# EAGLE library part SD_PULPO (library SD_PULPO)
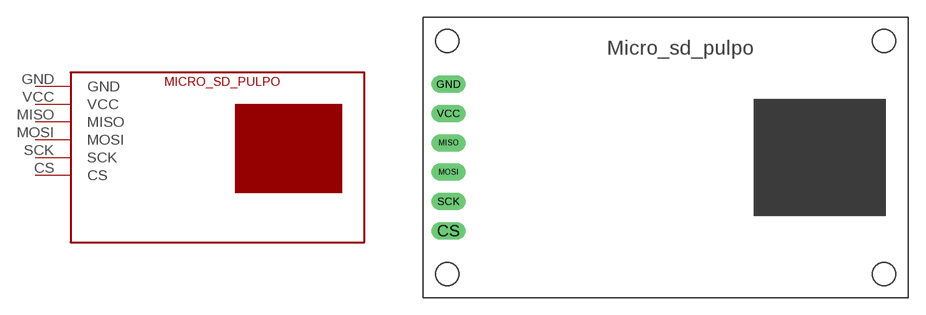
[diagram p0: symbol with the pads of SD_PULPO; footprint SD_PULPO]

Designator prefix -

## SD_PULPO  [SD_PULPO]
CS  CS
GND  GND
MISO  MISO
MOSI  MOSI
SCK  SCK
VCC  VCC

## Footprint SD_PULPO (pad centres in mm)
drill 1 pad 1.5 long: CS -18.8,-6.35; GND -18.8,6.35; MISO -18.8,1.27; MOSI -18.8,-1.27; SCK -18.8,-3.81; VCC -18.8,3.81